# EAGLE library part PIC18F1320_18PIN_DIP (library modular_robot_parts)
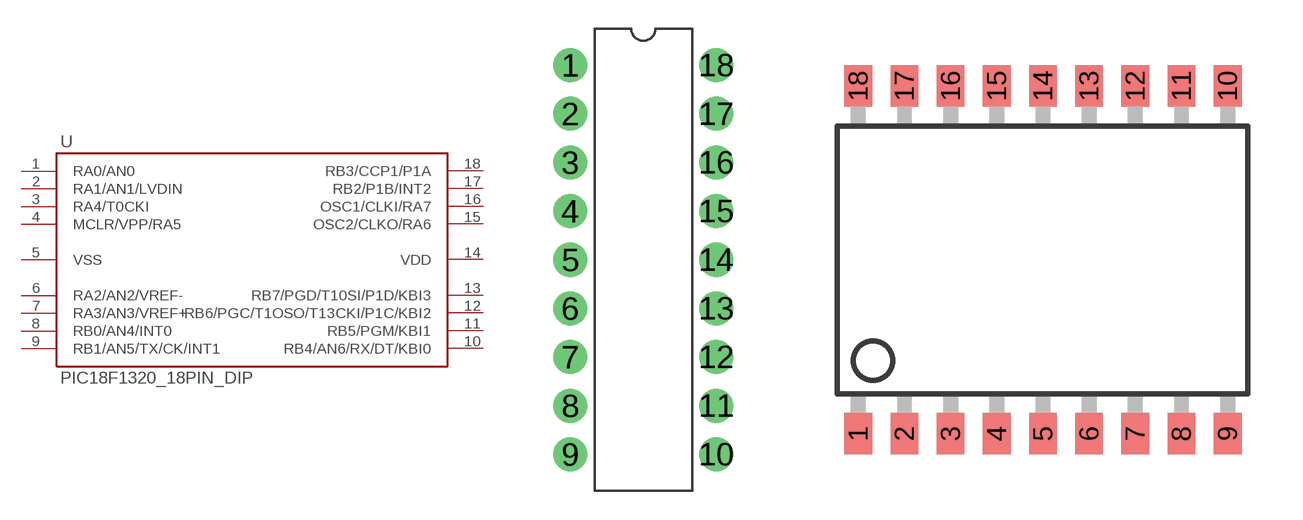
[diagram p0: symbol with the pads of 18PIN_DIP; footprints 18PIN_DIP, SO-18W]

Designator prefix -

## PIC18F1320_18PIN_DIP18PDIP  [18PIN_DIP]
1  RA0/AN0
2  RA1/AN1/LVDIN
3  RA4/T0CKI
4  MCLR/VPP/RA5
5  VSS
6  RA2/AN2/VREF-
7  RA3/AN3/VREF+
8  RB0/AN4/INT0
9  RB1/AN5/TX/CK/INT1
10  RB4/AN6/RX/DT/KBI0
11  RB5/PGM/KBI1
12  RB6/PGC/T1OSO/T13CKI/P1C/KBI2
13  RB7/PGD/T10SI/P1D/KBI3
14  VDD
15  OSC2/CLKO/RA6
16  OSC1/CLKI/RA7
17  RB2/P1B/INT2
18  RB3/CCP1/P1A

## PIC18F1320_18PIN_DIP  [SO-18W]
Pads as for 18PIN_DIP

## Footprint 18PIN_DIP (pad centres in mm)
drill 1.016 pad 1.778 round: 1 -3.81,10.16; 2 -3.81,7.62; 3 -3.81,5.08; 4 -3.81,2.54; 5 -3.81,0; 6 -3.81,-2.54; 7 -3.81,-5.08; 8 -3.81,-7.62; 9 -3.81,-10.16; 10 3.81,-10.16; 11 3.81,-7.62; 12 3.81,-5.08; 13 3.81,-2.54; 14 3.81,0; 15 3.81,2.54; 16 3.81,5.08; 17 3.81,7.62; 18 3.81,10.16

## Footprint SO-18W (pad centres in mm)
Small Outline Wide Plastic Gull Wing 300-mil body, package type SO
smd 0.762 x 1.143: 1 -5.08,-4.788; 2 -3.81,-4.788; 3 -2.54,-4.788; 4 -1.27,-4.788; 5 0,-4.788; 6 1.27,-4.788; 7 2.54,-4.788; 8 3.81,-4.788; 9 5.08,-4.788; 10 5.08,4.788; 11 3.81,4.788; 12 2.54,4.788; 13 1.27,4.788; 14 0,4.788; 15 -1.27,4.788; 16 -2.54,4.788; 17 -3.81,4.788; 18 -5.08,4.788